# Altium schematic symbol library Hw_Lib.SchLib: 55 symbols (part 2 of 2)
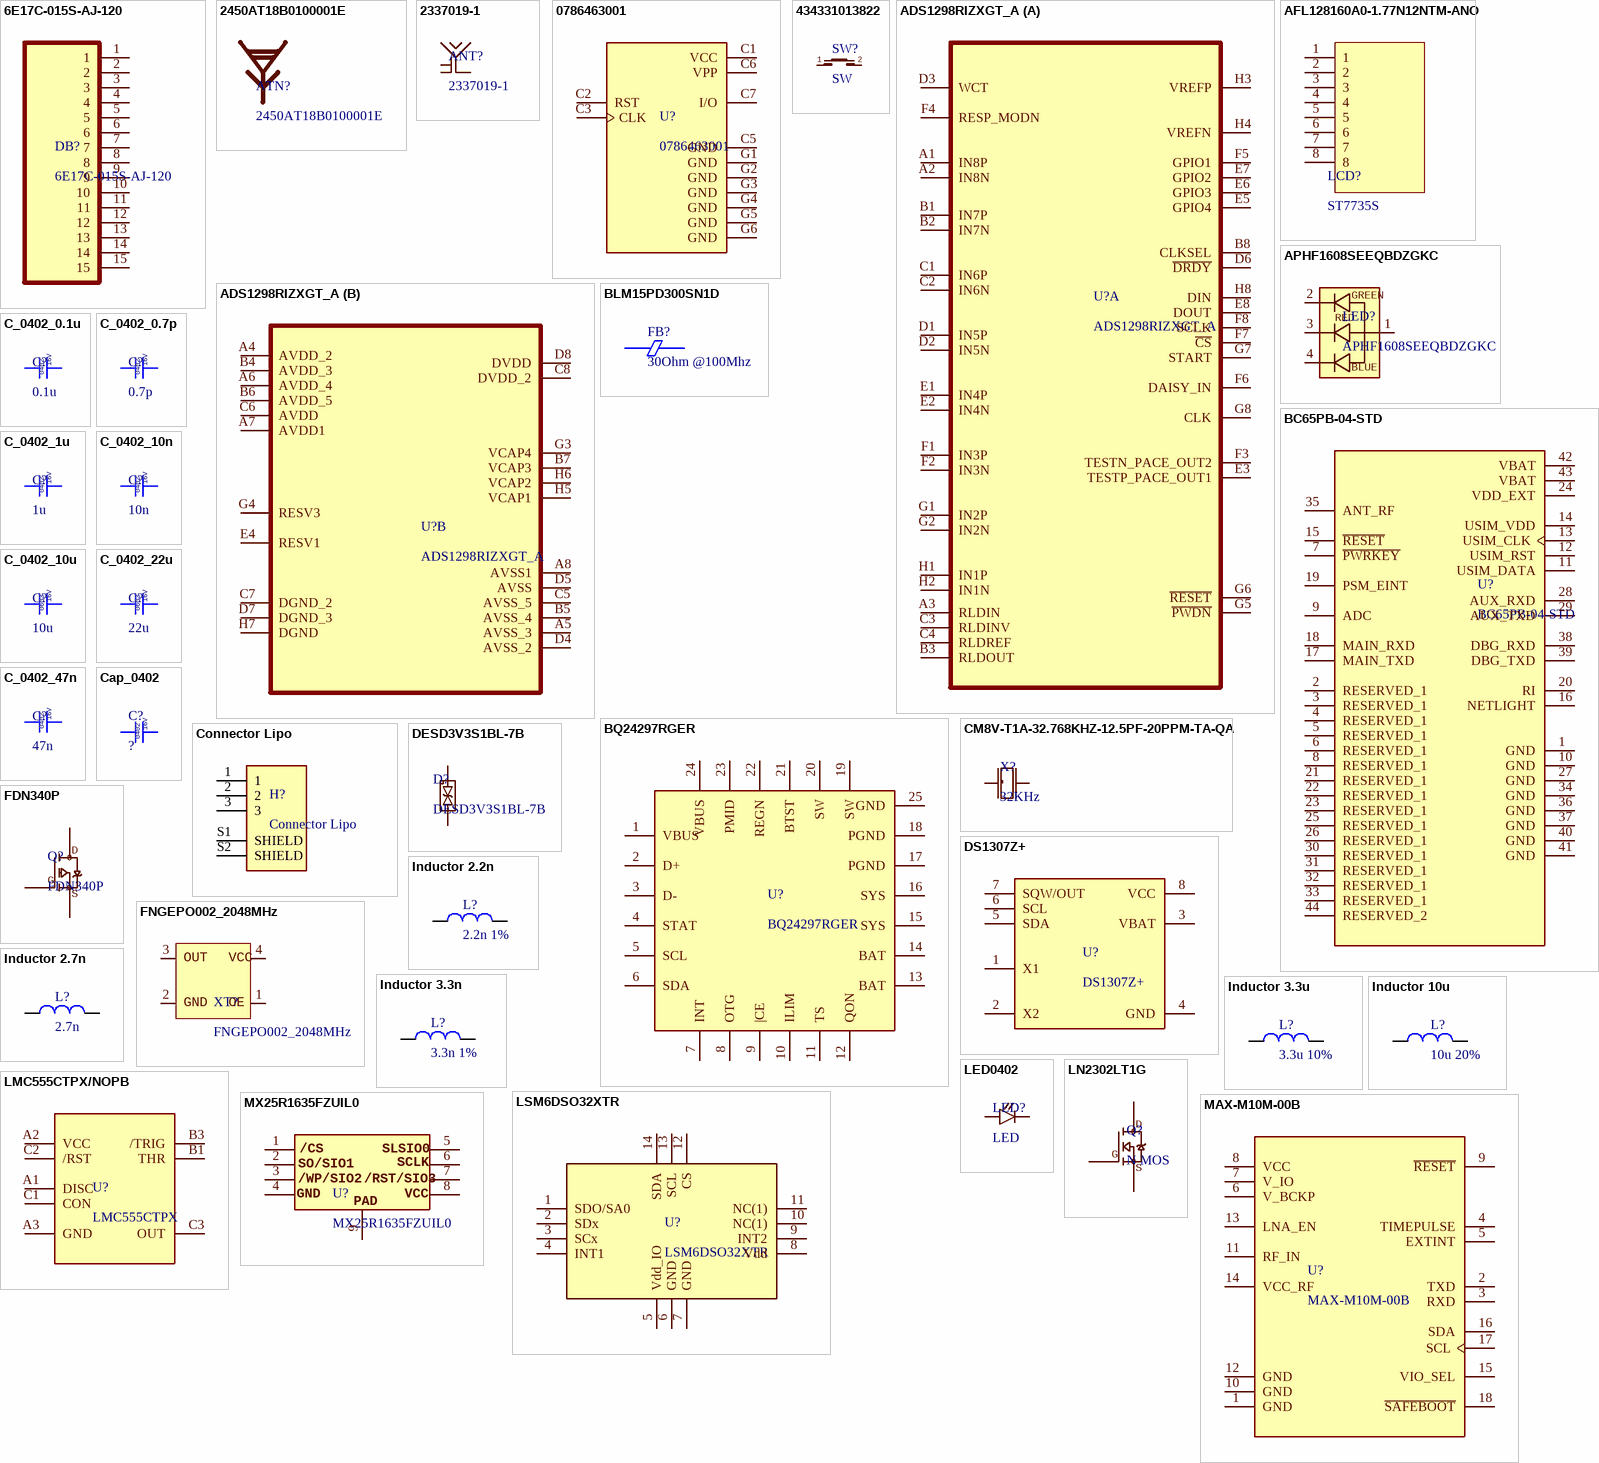
[diagram p2: symbols 6E17C-015S-AJ-120 to MX25R1635FZUIL0]

## Inductor 3.3u
designator L?, comment 3.3u 10%
General Purpose Inductor, 2.7uH, 10%, 1 Element, Ferrite-Core, SMD, 0402; Manufacturer: Abracon; Manufacturer Part Number: AIML-0402-2R7K-T; Case/Size Code: 0402; DC Resistance (DCR): 2R; Inductor Application: RF INDUCTOR; Channels: 1; Quality Factor-Min (at L-nom): 20; Max Current Rating: 10mA; Self Resonant Frequency: 22MHz; Shape/Size Description: RECTANGULAR PACKAGE; Shielding: Shielded; Test Frequency: 10MHz; Supplier: Digikey; Supplier Part Number: 535-11586-1-ND; RoHS: Yes; Category: Fixed Inductors; Stock: 9960; Pricing: 1=0.1, 10=0.06, 25=0.054, 50=0.05, 100=0.0464, 250=0.04192, 500=0.03886, 1000=0.03601, 2500=0.03255 (USD); Pins: 2; Core Material: Ferrite; Terminal Finish: Nickel; Min Operating Temperature: -55°C; Max Operating Temperature: 125°C; Tolerance: 10%; JESD-609 Code: e3; Inductance-Nom (L): 2.7uH; Inductor Type: GENERAL PURPOSE INDUCTOR; Manufacturer Series: AIML-0402; Surface Mount: Yes; Terminal Placement: Dual Ended; Termination: Wraparound; Reach SVHC Compliant: Yes; RoHS Compliant: Yes; ComponentLink1URL: https://datasheet.ciiva.com:443/pdfs/VipMasterIC/IC/ABRC/ABRC-S-A0008586383/ABRC-S-A0008586383-1.pdf?src-supplier=IHS+Markit; ComponentLink1Description: https://datasheet.ciiva.com:443/pdfs/VipMasterIC/IC/ABRC/ABRC-S-A0008586383/ABRC-S-A0008586383-1.pdf?src-supplier=IHS+Markit; ComponentLink2URL: https://datasheet.ciiva.com/1053/aiml-0402-1053196.pdf?src-supplier=Digikey; ComponentLink2Description: https://datasheet.ciiva.com/1053/aiml-0402-1053196.pdf?src-supplier=Digikey; ComponentLink3URL: https://datasheet.ciiva.com/1053/aiml-0402-1053197.pdf?src-supplier=Digikey; ComponentLink3Description: https://datasheet.ciiva.com/1053/aiml-0402-1053197.pdf?src-supplier=Digikey; ComponentLink4URL: https://datasheet.ciiva.com/1053/aiml-0402-1053198.pdf?src-supplier=Digikey; ComponentLink4Description: https://datasheet.ciiva.com/1053/aiml-0402-1053198.pdf?src-supplier=Digikey
footprint 0402(1005)
pins: 1, 2

## Inductor 10u
designator L?, comment 10u 20%
General Purpose Inductor, 10uH, 20%, 1 Element, Ferrite-Core, SMD, 0603; Manufacturer: TDK; Manufacturer Part Number: MLZ1608N100LTD25; Supplier 1: Digikey; Supplier Part Number 1: 445-17067-1-ND; Supplier: Digikey; Supplier Part Number: 445-17067-1-ND; RoHS: Yes; Category: Fixed Inductors; Stock: 21104; Pricing: 1=0.18, 10=0.149, 25=0.1364, 50=0.1206, 100=0.1054, 250=0.10044, 500=0.0944, 1000=0.07231 (USD); Inductor Type: GENERAL PURPOSE INDUCTOR; Reach SVHC Compliant: Yes; RoHS Compliant: Yes; ComponentLink1URL: https://datasheet.ciiva.com:443/pdfs/VipMasterIC/IC/TDKC/TDKC-S-A0007713921/TDKC-S-A0007713921-1.pdf?src-supplier=IHS+Markit; ComponentLink1Description: https://datasheet.ciiva.com:443/pdfs/VipMasterIC/IC/TDKC/TDKC-S-A0007713921/TDKC-S-A0007713921-1.pdf?src-supplier=IHS+Markit; ComponentLink2URL: http://www.mouser.com/ds/2/400/nductor_commercial_decoupling_mlz1608_en-837720.pdf?src-supplier=Mouser; ComponentLink2Description: http://www.mouser.com/ds/2/400/nductor_commercial_decoupling_mlz1608_en-837720.pdf?src-supplier=Mouser; ComponentLink3URL: https://product.tdk.com/info/en/catalog/datasheets/inductor_automotive_decoupling_mlz1608_en.pdf?src-supplier=Digikey; ComponentLink3Description: https://product.tdk.com/info/en/catalog/datasheets/inductor_automotive_decoupling_mlz1608_en.pdf?src-supplier=Digikey; ComponentLink4URL: https://product.tdk.com/info/en/catalog/datasheets/inductor_automotive_decoupling_mlz1608_en.pdf?ref_disty=digikey&src-supplier=Digikey; ComponentLink4Description: https://product.tdk.com/info/en/catalog/datasheets/inductor_automotive_decoupling_mlz1608_en.pdf?ref_disty=digikey&src-supplier=Digikey; ComponentLink5URL: https://datasheet.octopart.com/MLZ1608N100LTD25-TDK-datasheet-66132923.pdf?src-supplier=Future+Electronics; ComponentLink5Description: https://datasheet.octopart.com/MLZ1608N100LTD25-TDK-datasheet-66132923.pdf?src-supplier=Future+Electronics; Value: 10uH
footprint MLZ1608N100LTD25 (10 µH Shielded Multilayer Inductor 300 mA 600mOhm 0603 (1608 Metric))
pins: 1, 2

## LED0402
designator LED?, comment LED
Single Color LED, Hyper Red, Water Clear, 0.8mm; Manufacturer: Kingbright; Manufacturer Part Number: APHHS1005SURCK; Shape: Rectangular; Forward Current: 30mA; Luminous Intensity-Nom: 140mcd; Channels: 1; Viewing Angle: 120°; Forward Voltage: 2.5V; Reverse Voltage-Max: 5V; Overall Height: 0.5mm; Supplier: Digikey; Supplier Part Number: 754-1104-1-ND; RoHS: Yes; Category: LEDs; Stock: 73220; Pricing: 1=0.47, 10=0.31, 100=0.2068, 500=0.14302, 1000=0.11918 (USD); Mounting Technology: Surface Mount; Pins: 2; Color: Red; Color@wavelength: Red; Min Operating Temperature: -40°C; Max Operating Temperature: 85°C; Lens Style: WATER CLEAR; Optoelectronic Device Type: SINGLE COLOR LED; Packaging: Tape and Reel; Size: 0.8mm; Terminal Pitch: 1.1mm; Reach SVHC Compliant: Yes; RoHS Compliant: Yes; ComponentLink1URL: https://datasheet.ciiva.com:443/pdfs/VipMasterIC/IC/KBEC/KBEC-S-A0008947180/KBEC-S-A0008958151-1.pdf?src-supplier=IHS+Markit; ComponentLink1Description: https://datasheet.ciiva.com:443/pdfs/VipMasterIC/IC/KBEC/KBEC-S-A0008947180/KBEC-S-A0008958151-1.pdf?src-supplier=IHS+Markit; ComponentLink2URL: https://datasheet.ciiva.com/4689/aphhs1005surck-32322-4689068.pdf?src-supplier=Mouser; ComponentLink2Description: https://datasheet.ciiva.com/4689/aphhs1005surck-32322-4689068.pdf?src-supplier=Mouser; ComponentLink3URL: https://datasheet.ciiva.com/2114/aphhs1005surck-2114140.pdf?src-supplier=Digikey; ComponentLink3Description: https://datasheet.ciiva.com/2114/aphhs1005surck-2114140.pdf?src-supplier=Digikey; ComponentLink4URL: https://datasheet.ciiva.com/14603/70062833-14603899.pdf?src-supplier=Allied+Electronics; ComponentLink4Description: https://datasheet.ciiva.com/14603/70062833-14603899.pdf?src-supplier=Allied+Electronics; ComponentLink5URL: https://datasheet.ciiva.com/2114/aphhs1005surck-2114141.pdf?src-supplier=Digikey; ComponentLink5Description: https://datasheet.ciiva.com/2114/aphhs1005surck-2114141.pdf?src-supplier=Digikey; ComponentLink6URL: https://datasheet.ciiva.com/2114/aphhs1005surck-2114142.pdf?src-supplier=Digikey; ComponentLink6Description: https://datasheet.ciiva.com/2114/aphhs1005surck-2114142.pdf?src-supplier=Digikey
footprint LED0402
pins: 1 C, 2 A

## LMC555CTPX/NOPB
designator U?, comment LMC555CTPX
1 Func, 3MHz, CMOS, PBGA8; Manufacturer: TI National Semiconductor; Manufacturer Part Number: LMC555CTPX/NOPB; Package Body Material: Plastic; Throw Configuration: PULSE; RECTANGULAR; Channels: 1; Output Frequency-Max: 3GHz; Power Supplies: 1.5/12V; Max Supply Voltage: 12V; Min Supply Voltage: 1.5V; Nominal Supply Voltage: 5V; Time @ Peak Reflow Temperature-Max (s): 40s; Qualification Status: Not Qualified; Supplier 1: Digikey; Supplier Part Number 1: 296-46430-1-ND; Supplier: Digikey; Supplier Part Number: 296-46430-1-ND; RoHS: Yes; Category: Timers and Oscillators; Stock: 27881; Pricing: 1=1.35, 10=1.204, 25=1.1424, 100=0.9385, 250=0.87728, 500=0.77528, 1000=0.61206 (USD); Case/Package: FBGA; Pins: 8; Package Shape: Rectangular; Terminal Finish: Copper; Min Operating Temperature: -40°C; Max Operating Temperature: 85°C; JESD-609 Code: e1; Moisture Sensitivity Level: 1; Package Style: GRID ARRAY, FINE PITCHMeter; Peak Reflow Temperature (Cel): 260°C; Surface Mount: Yes; Technology: CMOS; Terminal Form: Ball; Terminal Position: BOTTOM; Length: 1.412mm; Width: 1.387mm; Terminal Pitch: 0.5mm; Reach SVHC Compliant: Yes; RoHS Compliant: Yes; Temperature Grade: INDUSTRIAL; ComponentLink1URL: https://datasheet.ciiva.com:443/pdfs/VipMasterIC/IC/NATL/NATLS11844/NATLS11844-1.pdf?src-supplier=IHS+Markit; ComponentLink1Description: https://datasheet.ciiva.com:443/pdfs/VipMasterIC/IC/NATL/NATLS11844/NATLS11844-1.pdf?src-supplier=IHS+Markit; ComponentLink2URL: https://datasheet.ciiva.com/6666/lmc555-6666976.pdf?src-supplier=Digikey; ComponentLink2Description: https://datasheet.ciiva.com/6666/lmc555-6666976.pdf?src-supplier=Digikey; ComponentLink3URL: https://datasheet.ciiva.com/15152/getdatasheetpartid-628891-15152597.pdf?src-supplier=Verical; ComponentLink3Description: https://datasheet.ciiva.com/15152/getdatasheetpartid-628891-15152597.pdf?src-supplier=Verical; ComponentLink4URL: https://datasheet.ciiva.com/14274/lmc555-14274486.pdf?src-supplier=Avnet; ComponentLink4Description: https://datasheet.ciiva.com/14274/lmc555-14274486.pdf?src-supplier=Avnet; ComponentLink5URL: https://datasheet.ciiva.com/14274/lmc555-14274422.pdf?src-supplier=Avnet; ComponentLink5Description: https://datasheet.ciiva.com/14274/lmc555-14274422.pdf?src-supplier=Avnet
footprint LMC555CTPX/NOPB (555 Type, Timer/Oscillator (Single) IC 3MHz 8-uSMD (1.41x1.44))
pins: A1 DISC, A2 VCC, A3 GND, B1 THR, B3 /TRIG, C1 CON, C2 /RST, C3 OUT

## LN2302LT1G
designator Q?, comment N MOS
https://www.thegioiic.com/ln2302lt1g-mosfet-kenh-n-20v-2-3a-sot-23-3
footprint FDN340P (P-Channel 20 V 2A (Ta) 500mW (Ta) Surface Mount SOT-23-3)
pins: 1 G, 2 S, 3 D

## LSM6DSO32XTR
designator U?
Analog Circuit; Manufacturer: STMicroelectronics; Supplier 1: Digikey; Supplier Part Number 1: 497-LSM6DSO32XTRCT-ND; Supplier: Digikey; Supplier Part Number: 497-LSM6DSO32XTRCT-ND; Manufacturer Part Number: LSM6DSO32XTR; RoHS: Yes; Category: Linear ICs; Stock: 7272; Pricing: 1=6.51, 5=5.488, 10=5.1, 25=4.628, 50=4.3008, 100=3.9969, 500=3.37188, 1000=3.13396 (USD)
footprint LSM6DSO32XTR (Accelerometer, Gyroscope, Temperature Sensor I2C, SPI Output)
pins: 1 SDO/SA0 (oc), 2 SDx (oc), 3 SCx (oc), 4 INT1 (oc), 5 Vdd_IO (oc), 6 GND (oc), 7 GND (oc), 8 Vdd (oc), 9 INT2 (oc), 10 NC(1) (oc), 11 NC(1) (oc), 12 CS (oc), 13 SCL (oc), 14 SDA (oc)

## MAX-M10M-00B
designator U?
Gnss Lcc Rx Mod, Rom, Crystal; Manufacturer: u-blox; Supplier 1: Digikey; Supplier Part Number 1: 672-MAX-M10M-00BCT-ND; Supplier: Digikey; Supplier Part Number: 672-MAX-M10M-00BCT-ND; Manufacturer Part Number: MAX-M10M-00B; RoHS: No; Category: RF Receivers, Transceivers; Stock: 11449; Pricing: 1=21, 10=13.52, 50=11.06, 100=9.4164 (USD)
footprint MAX-M10M-00B (MAX-M10 RF Receiver BeiDou, Galileo, GLONASS, GNSS, GPS -164dBm Not Included)
pins: 1 GND (oc), 2 TXD (oc), 3 RXD (oc), 4 TIMEPULSE (oc), 5 EXTINT (oc), 6 V_BCKP (oc), 7 V_IO (oc), 8 VCC (oc), 9 ~{RESET} (oc), 10 GND (oc), 11 RF_IN (oc), 12 GND (oc), 13 LNA_EN (oc), 14 VCC_RF (oc), 15 VIO_SEL (oc), 16 SDA (oc), 17 SCL (oc), 18 ~{SAFEBOOT} (oc)

## MX25R1635FZUIL0
designator U?
Flash, 4MX4, PDSO8; Manufacturer: Macronix; Package Body Material: Plastic; Channels: 1; Alternate Memory Width: 2; Clock Frequency: 80MHz; Density: 16777216b; Memory Width: 4; Memory Size: 4194304; Number of Words Code: 4M; Operating Mode: SYNCHRONOUS; Parallel/Serial: SERIAL; Programming Voltage: 3V; Max Supply Voltage: 3.6V; Min Supply Voltage: 1.65V; Nominal Supply Voltage: 1.8V; Supplier 1: Digikey; Supplier Part Number 1: 1092-1204-1-ND; Supplier: Digikey; Supplier Part Number: 1092-1204-1-ND; Manufacturer Part Number: MX25R1635FZUIL0; RoHS: Yes; Category: Memory; Stock: 57667; Pricing: 1=0.97, 10=0.858, 25=0.8184, 50=0.7898, 100=0.7621, 250=0.72684, 500=0.70126, 1000=0.67654, 5000=0.62231, 12000=0.59458 (USD); Case/Package: HVSON; Pins: 8; Package Shape: Rectangular; Min Operating Temperature: -40°C; Max Operating Temperature: 85°C; Memory Format: FLASH; JESD-30 Code: R-PDSO-N8; Organization: 4MX4; Package Style: SMALL OUTLINE, HEAT SINK/SLUG, VERY THIN PROFILEMeter; Surface Mount: Yes; Technology: CMOS; Terminal Form: No Lead; Terminal Position: DUAL; Length: 3mm; Width: 2mm; Terminal Pitch: 0.5mm; Height - Seated (Max): 0.6mm; RoHS Compliant: Yes; Reach SVHC Compliant: Yes; Temperature Grade: INDUSTRIAL; ComponentLink1URL: https://datasheet.ciiva.com:443/pdfs/VipMasterIC/IC/MXMA/MXMA-S-A0007136734/MXMA-S-A0007136734-1.pdf?src-supplier=IHS+Markit; ComponentLink1Description: https://datasheet.ciiva.com:443/pdfs/VipMasterIC/IC/MXMA/MXMA-S-A0007136734/MXMA-S-A0007136734-1.pdf?src-supplier=IHS+Markit; ComponentLink2URL: http://ckassoc.com/oldsite/pdf/Macronix_Product_Line_Card_July_2017_General%20_070617.pdf?src-supplier=Digikey; ComponentLink2Description: http://ckassoc.com/oldsite/pdf/Macronix_Product_Line_Card_July_2017_General%20_070617.pdf?src-supplier=Digikey; ComponentLink3URL: https://datasheet.octopart.com/MX25R1635FZUIL0-Macronix-datasheet-74389714.pdf?src-supplier=SHENGYU+ELECTRONICS; ComponentLink3Description: https://datasheet.octopart.com/MX25R1635FZUIL0-Macronix-datasheet-74389714.pdf?src-supplier=SHENGYU+ELECTRONICS
footprint MX25R1635FZUIL0 (FLASH - NOR Memory IC 16Mbit SPI - Quad I/O 33 MHz 8-USON (2x3))
pins: 1 /CS, 2 SO/SIO1, 3, 4, 5, 6, 7, 8, 9
text: SLSIO0; SCLK; /WP/SIO2; /RST/SIO3; GND; VCC; PAD

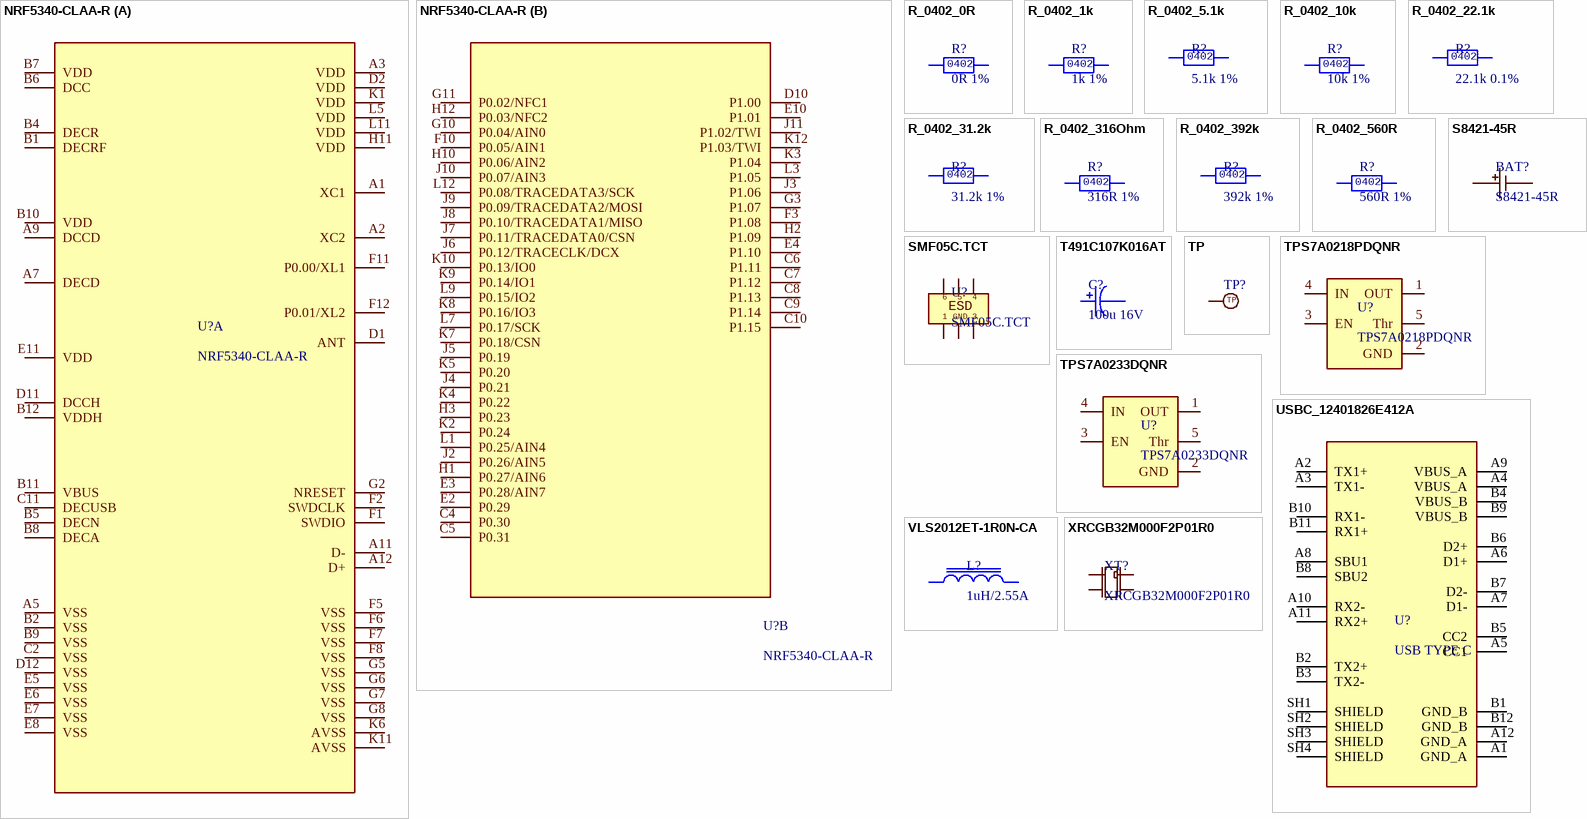
[diagram p1: symbols NRF5340-CLAA-R to XRCGB32M000F2P01R0]

## NRF5340-CLAA-R
designator U?
IC RF TXRX+MCU 802.15.4 95WLCSP; Manufacturer: Nordic Semiconductor; Supplier 1: Digikey; Supplier Part Number 1: 4823-NRF5340-CLAA-RCT-ND; Supplier: Digikey; Supplier Part Number: 4823-NRF5340-CLAA-RCT-ND; Manufacturer Part Number: NRF5340-CLAA-R; RoHS: No; Category: RF Receivers, Transceivers; Stock: 15499; Pricing: 1=7.28, 100=6.2, 500=5.39004, 1000=4.93002 (USD)
footprint NRF5340-CLAA-R
part A pins: A1 XC1, A2 XC2, A3 VDD, A5 VSS, A7 DECD, A9 DCCD, A11 D-, A12 D+, B1 DECRF, B2 VSS, B4 DECR, B5 DECN, B6 DCC, B7 VDD, B8 DECA, B9 VSS, B10 VDD, B11 VBUS, B12 VDDH, C2 VSS, C11 DECUSB, D1 ANT, D2 VDD, D11 DCCH, D12 VSS, E5 VSS, E6 VSS, E7 VSS, E8 VSS, E11 VDD, F1 SWDIO, F2 SWDCLK, F5 VSS, F6 VSS, F7 VSS, F8 VSS, F11 P0.00/XL1, F12 P0.01/XL2, G2 NRESET, G5 VSS, G6 VSS, G7 VSS, G8 VSS, H11 VDD, K1 VDD, K6 AVSS, K11 AVSS, L5 VDD, L11 VDD
part B pins: C4 P0.30, C5 P0.31, C6 P1.11, C7 P1.12, C8 P1.13, C9 P1.14, C10 P1.15, D10 P1.00, E2 P0.29, E3 P0.28/AIN7, E4 P1.10, E10 P1.01, F3 P1.08, F10 P0.05/AIN1, G3 P1.07, G10 P0.04/AIN0, G11 P0.02/NFC1, H1 P0.27/AIN6, H2 P1.09, H3 P0.23, H10 P0.06/AIN2, H12 P0.03/NFC2, J2 P0.26/AIN5, J3 P1.06, J4 P0.21, J5 P0.19, J6 P0.12/TRACECLK/DCX, J7 P0.11/TRACEDATA0/CSN, J8 P0.10/TRACEDATA1/MISO, J9 P0.09/TRACEDATA2/MOSI, J10 P0.07/AIN3, J11 P1.02/TWI, K2 P0.24, K3 P1.04, K4 P0.22, K5 P0.20, K7 P0.18/CSN, K8 P0.16/IO3, K9 P0.14/IO1, K10 P0.13/IO0, K12 P1.03/TWI, L1 P0.25/AIN4, L3 P1.05, L7 P0.17/SCK, L9 P0.15/IO2, L12 P0.08/TRACEDATA3/SCK

## R_0402_0R
designator R?, comment 0R 1%
Metal Glaze/thick Film, 0.0625W, 0ohm, Surface Mount, 0402; Manufacturer: Yageo; Manufacturer Part Number: RC0402JR-070RL; Power: 62.5mW; Rated Temperature: 70°C; Package Height: 0.35mm; Package Length: 1mm; Package Width: 0.5mm; Supplier 1: Digikey; Supplier Part Number 1: 311-0.0JRTR-ND; Supplier: Digikey; Supplier Part Number: 311-0.0JRCT-ND; RoHS: Yes; Category: Chip SMD Resistors; Stock: 14877447; Pricing: 1=0.1, 10=0.011, 25=0.0084, 50=0.0064, 100=0.0045, 250=0.00364, 500=0.0029, 1000=0.00214, 5000=0.00154, 10000=0.00133, 30000=0.00117, 50000=0.00107, 100000=0.00105 (USD); Mounting Technology: Surface Mount; Pins: 2; Package Shape: Rectangular; Case/Package: 0402; Terminal Finish: Nickel; Min Operating Temperature: -55°C; Max Operating Temperature: 155°C; JESD-609 Code: e3; Resistor Type: FIXED RESISTOR; Packaging: Tape and Reel; Value: 0R; Technology: METAL GLAZE/THICK FILM; Termination: Wraparound; Construction: Chip; Package Style: SMTMeter; Reach SVHC Compliant: Yes; RoHS Compliant: Yes; ComponentLink1URL: https://datasheet.ciiva.com:443/pdfs/VipMasterIC/IC/YAGO/YAGO-S-A0008145938/YAGO-S-A0008145938-1.pdf?src-supplier=IHS+Markit; ComponentLink1Description: https://datasheet.ciiva.com:443/pdfs/VipMasterIC/IC/YAGO/YAGO-S-A0008145938/YAGO-S-A0008145938-1.pdf?src-supplier=IHS+Markit; ComponentLink2URL: https://datasheet.ciiva.com/2452/pyu-rc0402-51-rohs-l-6-2452608.pdf?src-supplier=Digikey; ComponentLink2Description: https://datasheet.ciiva.com/2452/pyu-rc0402-51-rohs-l-6-2452608.pdf?src-supplier=Digikey; ComponentLink3URL: https://datasheet.ciiva.com/11808/0900766b80c66297-11808195.pdf?src-supplier=Rs; ComponentLink3Description: https://datasheet.ciiva.com/11808/0900766b80c66297-11808195.pdf?src-supplier=Rs; ComponentLink4URL: https://datasheet.ciiva.com/7983/1018594-7983535.pdf?src-supplier=Element14; ComponentLink4Description: https://datasheet.ciiva.com/7983/1018594-7983535.pdf?src-supplier=Element14; ComponentLink5URL: https://datasheet.ciiva.com/22747/1018594-22747515.pdf?src-supplier=Element14; ComponentLink5Description: https://datasheet.ciiva.com/22747/1018594-22747515.pdf?src-supplier=Element14; ComponentLink6URL: https://datasheet.ciiva.com/2452/pyu-r-int-thick-7-2452609.pdf?src-supplier=Digikey; ComponentLink6Description: https://datasheet.ciiva.com/2452/pyu-r-int-thick-7-2452609.pdf?src-supplier=Digikey; ComponentLink7URL: https://datasheet.ciiva.com/2452/pyu-r-int-thick-7-2452610.pdf?src-supplier=Digikey; ComponentLink7Description: https://datasheet.ciiva.com/2452/pyu-r-int-thick-7-2452610.pdf?src-supplier=Digikey; ComponentLink8URL: https://datasheet.ciiva.com/8896/pyu-rc0402-51-rohs-l-6-8896201.pdf?src-supplier=Avnet; ComponentLink8Description: https://datasheet.ciiva.com/8896/pyu-rc0402-51-rohs-l-6-8896201.pdf?src-supplier=Avnet
footprint RES0402 (Chip Resistor, 2-Leads, Body 1.00x0.50mm, IPC Medium Density)
pins: 1, 2

## R_0402_1k
designator R?, comment 1k 1%
Fixed Resistor, Metal Glaze/thick Film, 0.1W, 1000ohm, 75V, 1% +/-Tol, 100ppm/Cel, Surface Mount, 0402; Manufacturer: KOA Speer; Manufacturer Part Number: RK73H1ETTP1001F; Additional Feature: PRECISION; Power: 100mW; Rated Temperature: 70°C; Value: 1kR; Temperature Coefficient: 100ppm/°C; Working Voltage: 50V; Package Height: 0.35mm; Package Length: 1mm; Package Width: 0.5mm; Reference Standard: AEC-Q200; Supplier 1: Digikey; Supplier Part Number 1: 311-1.00KLRDKR-ND; Supplier: Digikey; Supplier Part Number: 2019-RK73H1ETTP1001FCT-ND; RoHS: Yes; Category: Chip SMD Resistors; Stock: 1041060; Pricing: 1=0.1, 10=0.021, 50=0.0134, 100=0.0112, 500=0.00764, 1000=0.00658, 5000=0.00478 (USD); Mounting Technology: Surface Mount; Pins: 2; Case/Package: 0402; Terminal Finish: Nickel; Min Operating Temperature: -55°C; Max Operating Temperature: 155°C; Tolerance: 1%; JESD-609 Code: e3; Resistor Type: FIXED RESISTOR; Construction: Rectangular; Package Style: SMTMeter; Packaging: Tape and Reel; Technology: METAL GLAZE/THICK FILM; Termination: Wraparound; Reach SVHC Compliant: Yes; RoHS Compliant: Yes; ComponentLink1URL: https://datasheet.ciiva.com:443/pdfs/VipMasterIC/IC/KOAS/KOAS-S-A0009586304/KOAS-S-A0009586304-1.pdf?src-supplier=IHS+Markit; ComponentLink1Description: https://datasheet.ciiva.com:443/pdfs/VipMasterIC/IC/KOAS/KOAS-S-A0009586304/KOAS-S-A0009586304-1.pdf?src-supplier=IHS+Markit; ComponentLink2URL: https://datasheet.ciiva.com/5554/rk73h-5554172.pdf?src-supplier=Mouser; ComponentLink2Description: https://datasheet.ciiva.com/5554/rk73h-5554172.pdf?src-supplier=Mouser
footprint RES0402 (Chip Resistor, 2-Leads, Body 1.00x0.50mm, IPC Medium Density)
pins: 1, 2

## R_0402_5.1k
designator R?, comment 5.1k 1%
Fixed Resistor, Metal Glaze/thick Film, 0.0625W, 5100ohm, 50V, 1% +/-Tol, 100ppm/Cel, Surface Mount, 0402; Manufacturer: Yageo; Manufacturer Part Number: RC0402FR-075K1L; Additional Feature: LASER TRIMMABLE; Power: 62.5mW; Rated Temperature: 70°C; Value: 5.1kR; Temperature Coefficient: 100ppm/°C; Package Height: 0.35mm; Package Length: 1mm; Package Width: 0.5mm; Supplier: Digikey; Supplier Part Number: 311-5.10KLRCT-ND; RoHS: Yes; Category: Chip SMD Resistors; Stock: 302088; Pricing: 1=0.1, 10=0.015, 50=0.0088, 100=0.0073, 500=0.00488, 1000=0.00417, 5000=0.00297 (USD); Mounting Technology: Surface Mount; Pins: 2; Package Shape: Rectangular; Case/Package: 0402; Terminal Finish: Nickel; Min Operating Temperature: -55°C; Max Operating Temperature: 155°C; Tolerance: 1%; JESD-609 Code: e3; Resistor Type: FIXED RESISTOR; Packaging: Tape and Reel; Technology: METAL GLAZE/THICK FILM; Termination: Wraparound; Working Voltage: 50V; Construction: Chip; Package Style: SMTMeter; Reach SVHC Compliant: Yes; RoHS Compliant: Yes; ComponentLink1URL: https://datasheet.ciiva.com:443/pdfs/VipMasterIC/IC/YAGO/YAGO-S-A0008145938/YAGO-S-A0008145938-1.pdf?src-supplier=IHS+Markit; ComponentLink1Description: https://datasheet.ciiva.com:443/pdfs/VipMasterIC/IC/YAGO/YAGO-S-A0008145938/YAGO-S-A0008145938-1.pdf?src-supplier=IHS+Markit; ComponentLink2URL: https://datasheet.ciiva.com/7983/1018594-7983519.pdf?src-supplier=Element14; ComponentLink2Description: https://datasheet.ciiva.com/7983/1018594-7983519.pdf?src-supplier=Element14; ComponentLink3URL: https://datasheet.ciiva.com/46394/1018594-46394936.pdf?src-supplier=Element14; ComponentLink3Description: https://datasheet.ciiva.com/46394/1018594-46394936.pdf?src-supplier=Element14; ComponentLink4URL: https://datasheet.ciiva.com/2453/pyu-r-int-thick-7-2453401.pdf?src-supplier=Digikey; ComponentLink4Description: https://datasheet.ciiva.com/2453/pyu-r-int-thick-7-2453401.pdf?src-supplier=Digikey; ComponentLink5URL: https://datasheet.ciiva.com/2453/pyu-r-int-thick-7-2453402.pdf?src-supplier=Digikey; ComponentLink5Description: https://datasheet.ciiva.com/2453/pyu-r-int-thick-7-2453402.pdf?src-supplier=Digikey; ComponentLink6URL: https://datasheet.ciiva.com/2453/pyu-r-int-thick-7-2453400.pdf?src-supplier=Digikey; ComponentLink6Description: https://datasheet.ciiva.com/2453/pyu-r-int-thick-7-2453400.pdf?src-supplier=Digikey; ComponentLink7URL: https://datasheet.ciiva.com/12558/pyu-rc0402-51-rohs-l-6-r-8721-12558460.pdf?src-supplier=Mouser; ComponentLink7Description: https://datasheet.ciiva.com/12558/pyu-rc0402-51-rohs-l-6-r-8721-12558460.pdf?src-supplier=Mouser; ComponentLink8URL: https://datasheet.ciiva.com/16744/pyu-rc0402-51-rohs-l-6-r-16744283.pdf?src-supplier=Future+Electronics; ComponentLink8Description: https://datasheet.ciiva.com/16744/pyu-rc0402-51-rohs-l-6-r-16744283.pdf?src-supplier=Future+Electronics; ComponentLink9URL: https://datasheet.ciiva.com/15189/getdatasheetpartid-323636-15189493.pdf?src-supplier=Verical; ComponentLink9Description: https://datasheet.ciiva.com/15189/getdatasheetpartid-323636-15189493.pdf?src-supplier=Verical
footprint RES0402 (Chip Resistor, 2-Leads, Body 1.00x0.50mm, IPC Medium Density)
pins: 1, 2

## R_0402_10k
designator R?, comment 10k 1%
Fixed Resistor, Metal Glaze/thick Film, 0.06W, 10000ohm, 50V, 1% +/-Tol, 100ppm/Cel, Surface Mount, 0402; Manufacturer: Samsung; Manufacturer Part Number: RC1005F103CS; Power: 60mW; Value: 10kR; Temperature Coefficient: 100ppm/°C; Package Height: 0.35mm; Package Length: 1mm; Package Width: 0.5mm; Supplier: Digikey; Supplier Part Number: 1276-3431-1-ND; RoHS: Yes; Category: Chip SMD Resistors; Stock: 14343795; Pricing: 1=0.1, 10=0.024, 50=0.0156, 100=0.0132, 500=0.00922, 1000=0.00803, 5000=0.00598, 10000=0.00533, 20000=0.00481, 30000=0.00458 (USD); Mounting Technology: Surface Mount; Pins: 2; Package Shape: Rectangular; Case/Package: 0402; Terminal Finish: Nickel; Min Operating Temperature: -55°C; Max Operating Temperature: 125°C; Tolerance: 1%; JESD-609 Code: e3; Resistor Type: FIXED RESISTOR; Construction: Chip; Package Style: SMTMeter; Packaging: Tape and Reel; Technology: METAL GLAZE/THICK FILM; Working Voltage: 50V; Reach SVHC Compliant: Yes; RoHS Compliant: Yes; ComponentLink1URL: https://datasheet.ciiva.com:443/pdfs/VipMasterIC/IC/SEMS/SEMS-S-A0001326806/SEMS-S-A0001326806-1.pdf?src-supplier=IHS+Markit; ComponentLink1Description: https://datasheet.ciiva.com:443/pdfs/VipMasterIC/IC/SEMS/SEMS-S-A0001326806/SEMS-S-A0001326806-1.pdf?src-supplier=IHS+Markit; ComponentLink2URL: https://datasheet.ciiva.com/15196/getdatasheetpartid-504789-15196214.pdf?src-supplier=Verical; ComponentLink2Description: https://datasheet.ciiva.com/15196/getdatasheetpartid-504789-15196214.pdf?src-supplier=Verical; ComponentLink3URL: https://datasheet.ciiva.com/16481/rcseries-16481007.pdf?src-supplier=Future+Electronics; ComponentLink3Description: https://datasheet.ciiva.com/16481/rcseries-16481007.pdf?src-supplier=Future+Electronics
footprint R0402 (0 Ohms Jumper Chip Resistor 0402 (1005 Metric) Moisture Resistant Thick Film)
pins: 1, 2

## R_0402_22.1k
designator R?, comment 22.1k 0.1%
Fixed Resistor, Thin Film, 0.063W, 22100ohm, 50V, 0.1% +/-Tol, 25ppm/Cel, Surface Mount, 0402; Manufacturer: Vishay Dale; Manufacturer Part Number: TNPW040222K1BEED; Manufacturer Series: TNPW; Power: 63mW; Rated Temperature: 70°C; Value: 22.1kR; Temperature Coefficient: 25ppm/°C; Supplier: Digikey; Supplier Part Number: TNP22.1KDACT-ND; RoHS: Yes; Category: Chip SMD Resistors; Stock: 60436; Pricing: 1=0.38, 10=0.272, 50=0.2098, 100=0.1863, 500=0.1394, 1000=0.12239, 5000=0.10368 (USD); Mounting Technology: Surface Mount; Pins: 2; Package Shape: Rectangular; Case/Package: 0402; Terminal Finish: Tin; Min Operating Temperature: -55°C; Max Operating Temperature: 125°C; Tolerance: 0.1%; JESD-609 Code: e3; Resistor Type: FIXED RESISTOR; Packaging: Tape and Reel; Technology: THIN FILM; Termination: Wraparound; Working Voltage: 50V; Reach SVHC Compliant: Yes; RoHS Compliant: Yes; ComponentLink1URL: https://datasheet.ciiva.com:443/pdfs/VipMasterIC/IC/DALE/DALES05753/DALES05753-1.pdf?src-supplier=IHS+Markit; ComponentLink1Description: https://datasheet.ciiva.com:443/pdfs/VipMasterIC/IC/DALE/DALES05753/DALES05753-1.pdf?src-supplier=IHS+Markit; ComponentLink2URL: http://www.mouser.com/ds/2/427/tnpw_e3-64594.pdf?src-supplier=Mouser; ComponentLink2Description: http://www.mouser.com/ds/2/427/tnpw_e3-64594.pdf?src-supplier=Mouser; ComponentLink3URL: http://www.farnell.com/datasheets/2618479.pdf?src-supplier=Farnell; ComponentLink3Description: http://www.farnell.com/datasheets/2618479.pdf?src-supplier=Farnell; ComponentLink4URL: http://www.vishay.com/docs/28758/tnpw_e3.pdf?src-supplier=Digikey; ComponentLink4Description: http://www.vishay.com/docs/28758/tnpw_e3.pdf?src-supplier=Digikey; ComponentLink5URL: http://www.vishay.com/docs/49252/_dbr_smd_resistor_product_overview_vmn_sg2189_1705.pdf?src-supplier=Digikey; ComponentLink5Description: http://www.vishay.com/docs/49252/_dbr_smd_resistor_product_overview_vmn_sg2189_1705.pdf?src-supplier=Digikey; ComponentLink6URL: http://www.vishay.com/docs/28758/tnpw_e3.pdf?src-supplier=Avnet; ComponentLink6Description: http://www.vishay.com/docs/28758/tnpw_e3.pdf?src-supplier=Avnet; ComponentLink7URL: http://www.farnell.com/datasheets/2618479.pdf?src-supplier=Newark; ComponentLink7Description: http://www.farnell.com/datasheets/2618479.pdf?src-supplier=Newark; ComponentLink8URL: https://datasheet.octopart.com/TNPW040222K1BEED-Vishay-datasheet-112277797.pdf?src-supplier=Newark; ComponentLink8Description: https://datasheet.octopart.com/TNPW040222K1BEED-Vishay-datasheet-112277797.pdf?src-supplier=Newark
footprint R0402 (0 Ohms Jumper Chip Resistor 0402 (1005 Metric) Moisture Resistant Thick Film)
pins: 1, 2

## R_0402_31.2k
designator R?, comment 31.2k 1%
Fixed Resistor, Thin Film, 0.063W, 31200ohm, 50V, 1% +/-Tol, 25ppm/Cel, Surface Mount, 0402; Manufacturer: KOA Speer; Manufacturer Part Number: RN73H1ETTP3122F25; Supplier: Digikey; Supplier Part Number: 2019-RN73H1ETTP3122F25CT-ND; RoHS: Yes; Category: Resistors; Stock: 29267; Pricing: 1=0.25, 10=0.187, 50=0.1462, 100=0.1304, 500=0.09846, 1000=0.08675, 5000=0.0639 (USD); ComponentLink1URL: https://datasheet.ciiva.com:443/pdfs/VipMasterIC/IC/KOAS/KOAS-S-A0009586296/KOAS-S-A0009586296-1.pdf?src-supplier=IHS+Markit; ComponentLink1Description: https://datasheet.ciiva.com:443/pdfs/VipMasterIC/IC/KOAS/KOAS-S-A0009586296/KOAS-S-A0009586296-1.pdf?src-supplier=IHS+Markit; ComponentLink2URL: https://datasheet.ciiva.com/12737/rn73h-12737573.pdf?src-supplier=Mouser; ComponentLink2Description: https://datasheet.ciiva.com/12737/rn73h-12737573.pdf?src-supplier=Mouser
footprint RES0402 (Chip Resistor, 2-Leads, Body 1.00x0.50mm, IPC Medium Density)
pins: 1, 2
text: 0402

## R_0402_316Ohm
designator R?, comment 316R 1%
Fixed Resistor, Metal Glaze/thick Film, 0.1W, 316ohm, 75V, 1% +/-Tol, 100ppm/Cel, Surface Mount, 0402; Manufacturer: KOA Speer; Manufacturer Part Number: RK73H1ETTP3160F; Additional Feature: PRECISION; Power: 100mW; Rated Temperature: 70°C; Temperature Coefficient: 100ppm/°C; Working Voltage: 50V; Package Height: 0.35mm; Package Length: 1mm; Package Width: 0.5mm; Reference Standard: AEC-Q200; Supplier: Digikey; Supplier Part Number: 2019-RK73H1ETTP3160FCT-ND; RoHS: Yes; Category: Chip SMD Resistors; Stock: 38581; Pricing: 1=0.1, 10=0.021, 50=0.0134, 100=0.0112, 500=0.00764, 1000=0.00658, 5000=0.00478 (USD); Mounting Technology: Surface Mount; Pins: 2; Case/Package: 0402; Terminal Finish: Nickel; Min Operating Temperature: -55°C; Max Operating Temperature: 155°C; Tolerance: 1%; JESD-609 Code: e3; Resistor Type: FIXED RESISTOR; Construction: Rectangular; Package Style: SMTMeter; Packaging: Tape and Reel; Value: 316R; Technology: METAL GLAZE/THICK FILM; Termination: Wraparound; Reach SVHC Compliant: Yes; RoHS Compliant: Yes; ComponentLink1URL: https://datasheet.ciiva.com:443/pdfs/VipMasterIC/IC/KOAS/KOAS-S-A0009586304/KOAS-S-A0009586304-1.pdf?src-supplier=IHS+Markit; ComponentLink1Description: https://datasheet.ciiva.com:443/pdfs/VipMasterIC/IC/KOAS/KOAS-S-A0009586304/KOAS-S-A0009586304-1.pdf?src-supplier=IHS+Markit; ComponentLink2URL: https://datasheet.ciiva.com/5553/rk73h-5553335.pdf?src-supplier=Mouser; ComponentLink2Description: https://datasheet.ciiva.com/5553/rk73h-5553335.pdf?src-supplier=Mouser
footprint R0402 (0 Ohms Jumper Chip Resistor 0402 (1005 Metric) Moisture Resistant Thick Film)
pins: 1, 2

## R_0402_392k
designator R?, comment 392k 1%
Fixed Resistor, Metal Glaze/thick Film, 0.1W, 392000ohm, 75V, 1% +/-Tol, 100ppm/Cel, Surface Mount, 0402; Manufacturer: KOA Speer; Manufacturer Part Number: RK73H1ETTP3923F; Additional Feature: PRECISION; Power: 100mW; Rated Temperature: 70°C; Value: 392kR; Temperature Coefficient: 100ppm/°C; Working Voltage: 50V; Package Height: 0.35mm; Package Length: 1mm; Package Width: 0.5mm; Reference Standard: AEC-Q200; Supplier: Digikey; Supplier Part Number: 2019-RK73H1ETTP3923FCT-ND; RoHS: Yes; Category: Chip SMD Resistors; Stock: 5184; Pricing: 1=0.1, 10=0.023, 50=0.0138, 100=0.0115, 500=0.00768, 1000=0.00657, 5000=0.00476 (USD); Mounting Technology: Surface Mount; Pins: 2; Case/Package: 0402; Terminal Finish: Nickel; Min Operating Temperature: -55°C; Max Operating Temperature: 155°C; Tolerance: 1%; JESD-609 Code: e3; Resistor Type: FIXED RESISTOR; Construction: Rectangular; Package Style: SMTMeter; Packaging: Tape and Reel; Technology: METAL GLAZE/THICK FILM; Termination: Wraparound; Reach SVHC Compliant: Yes; RoHS Compliant: Yes; ComponentLink1URL: https://datasheet.ciiva.com:443/pdfs/VipMasterIC/IC/KOAS/KOAS-S-A0009586304/KOAS-S-A0009586304-1.pdf?src-supplier=IHS+Markit; ComponentLink1Description: https://datasheet.ciiva.com:443/pdfs/VipMasterIC/IC/KOAS/KOAS-S-A0009586304/KOAS-S-A0009586304-1.pdf?src-supplier=IHS+Markit; ComponentLink2URL: https://datasheet.ciiva.com/3882/39733851s9852373n5146-3882825.pdf?src-supplier=Arrow+Electronics; ComponentLink2Description: https://datasheet.ciiva.com/3882/39733851s9852373n5146-3882825.pdf?src-supplier=Arrow+Electronics; ComponentLink3URL: https://datasheet.ciiva.com/5553/rk73h-5553836.pdf?src-supplier=Mouser; ComponentLink3Description: https://datasheet.ciiva.com/5553/rk73h-5553836.pdf?src-supplier=Mouser
footprint R0402 (0 Ohms Jumper Chip Resistor 0402 (1005 Metric) Moisture Resistant Thick Film)
pins: 1, 2

## R_0402_560R
designator R?, comment 560R 1%
Fixed Resistor, Metal Glaze/thick Film, 0.1W, 560ohm, 75V, 1% +/-Tol, 100ppm/Cel, Surface Mount, 0402; Manufacturer: KOA Speer; Manufacturer Part Number: RK73H1ETTP5600F; Additional Feature: PRECISION; Power: 100mW; Rated Temperature: 70°C; Temperature Coefficient: 100ppm/°C; Working Voltage: 50V; Package Height: 0.35mm; Package Length: 1mm; Package Width: 0.5mm; Reference Standard: AEC-Q200; Supplier: Digikey; Supplier Part Number: 2019-RK73H1ETTP5600FCT-ND; RoHS: Yes; Category: Chip SMD Resistors; Stock: 65205; Pricing: 1=0.1, 10=0.021, 50=0.0134, 100=0.0112, 500=0.00764, 1000=0.00658, 5000=0.00478 (USD); Mounting Technology: Surface Mount; Pins: 2; Case/Package: 0402; Terminal Finish: Nickel; Min Operating Temperature: -55°C; Max Operating Temperature: 155°C; Tolerance: 1%; JESD-609 Code: e3; Resistor Type: FIXED RESISTOR; Construction: Rectangular; Package Style: SMTMeter; Packaging: Tape and Reel; Value: 560R; Technology: METAL GLAZE/THICK FILM; Termination: Wraparound; Reach SVHC Compliant: Yes; RoHS Compliant: Yes; ComponentLink1URL: https://datasheet.ciiva.com:443/pdfs/VipMasterIC/IC/KOAS/KOAS-S-A0009586304/KOAS-S-A0009586304-1.pdf?src-supplier=IHS+Markit; ComponentLink1Description: https://datasheet.ciiva.com:443/pdfs/VipMasterIC/IC/KOAS/KOAS-S-A0009586304/KOAS-S-A0009586304-1.pdf?src-supplier=IHS+Markit; ComponentLink2URL: https://datasheet.ciiva.com/5557/rk73h-5557917.pdf?src-supplier=Mouser; ComponentLink2Description: https://datasheet.ciiva.com/5557/rk73h-5557917.pdf?src-supplier=Mouser
footprint R0402 (0 Ohms Jumper Chip Resistor 0402 (1005 Metric) Moisture Resistant Thick Film)
pins: 1, 2

## S8421-45R
designator BAT?
Batteries/Accessories; Manufacturer: Harwin; Supplier: Digikey; Supplier Part Number: 952-1737-1-ND; Manufacturer Part Number: S8421-45R; RoHS: Yes; Category: Connectors; Stock: 2630; Pricing: 1=1.67, 10=1.404, 50=1.234, 100=1.1627, 250=1.06944 (USD); ComponentLink1URL: https://datasheet.ciiva.com:443/pdfs/VipMasterIC/IC/HRWN/HRWN-S-A0000709403/HRWN-S-A0000709403-1.pdf?src-supplier=IHS+Markit; ComponentLink1Description: https://datasheet.ciiva.com:443/pdfs/VipMasterIC/IC/HRWN/HRWN-S-A0000709403/HRWN-S-A0000709403-1.pdf?src-supplier=IHS+Markit; ComponentLink2URL: https://datasheet.ciiva.com/7613/s8421r-7613429.pdf?src-supplier=Digikey; ComponentLink2Description: https://datasheet.ciiva.com/7613/s8421r-7613429.pdf?src-supplier=Digikey; ComponentLink3URL: https://datasheet.ciiva.com/5224/s8421r-64815-5224678.pdf?src-supplier=Mouser; ComponentLink3Description: https://datasheet.ciiva.com/5224/s8421r-64815-5224678.pdf?src-supplier=Mouser; Supplier 1: Digikey; Supplier Part Number 1: 952-1737-1-ND
footprint S8421-45R
pins: N NEG, P POS

## SMF05C.TCT
designator U?
Trans Voltage Suppressor Diode, 100W, 5V V(RWM), Unidirectional, 5 Element, Silicon, MO-203AB; Manufacturer: Semtech; Package Body Material: Plastic; Min Breakdown Voltage: 6V; Clamping Voltage-Max: 12.5V; Number of Elements: 5; Qualification Status: Not Qualified; Supplier 1: Digikey; Supplier Part Number 1: SMF05CCT-ND; Supplier: Digikey; Supplier Part Number: SMF05CCT-ND; Manufacturer Part Number: SMF05C.TCT; RoHS: Yes; Category: TVS Diodes; Stock: 54740; Pricing: 1=0.8, 10=0.689, 100=0.4772, 500=0.39874, 1000=0.33936 (USD); Pins: 6; Diode Element Material: SILICON; Package Shape: Rectangular; Terminal Finish: Tin; Min Operating Temperature: -55°C; Max Operating Temperature: 125°C; JESD-609 Code: e3; Polarity: Unidirectional; Diode Type: TRANS VOLTAGE SUPPRESSOR; JESD-30 Code: R-PDSO-G6; Moisture Sensitivity Level: 1; Non-rep Peak Rev Power Dis-Max: 100W; Package Style: SMALL OUTLINEMeter; Peak Reflow Temperature (Cel): 260°C; Rep Pk Reverse Voltage-Max: 5V; Surface Mount: Yes; Technology: AVALANCHE; Terminal Form: Gull Wing; Terminal Position: DUAL; Reach SVHC Compliant: Yes; RoHS Compliant: Yes; ComponentLink1URL: https://datasheet.ciiva.com:443/pdfs/VipMasterIC/IC/SEMT/SEMT-S-A0000305255/SEMT-S-A0000305255-1.pdf?src-supplier=IHS+Markit; ComponentLink1Description: https://datasheet.ciiva.com:443/pdfs/VipMasterIC/IC/SEMT/SEMT-S-A0000305255/SEMT-S-A0000305255-1.pdf?src-supplier=IHS+Markit; ComponentLink2URL: https://datasheet.ciiva.com/338/smf05c-338385.pdf?src-supplier=Digikey; ComponentLink2Description: https://datasheet.ciiva.com/338/smf05c-338385.pdf?src-supplier=Digikey; ComponentLink3URL: https://datasheet.ciiva.com/18065/getdatasheetpartid-89007-18065142.pdf?src-supplier=Verical; ComponentLink3Description: https://datasheet.ciiva.com/18065/getdatasheetpartid-89007-18065142.pdf?src-supplier=Verical; ComponentLink4URL: https://datasheet.ciiva.com/338/smf05c-338386.pdf?src-supplier=Digikey; ComponentLink4Description: https://datasheet.ciiva.com/338/smf05c-338386.pdf?src-supplier=Digikey; ComponentLink5URL: https://datasheet.ciiva.com/338/smf05c-338387.pdf?src-supplier=Digikey; ComponentLink5Description: https://datasheet.ciiva.com/338/smf05c-338387.pdf?src-supplier=Digikey; ComponentLink6URL: https://datasheet.ciiva.com/16387/smf05c-16387308.pdf?src-supplier=Future+Electronics; ComponentLink6Description: https://datasheet.ciiva.com/16387/smf05c-16387308.pdf?src-supplier=Future+Electronics
footprint SMF05C.TCT
pins: 1, 2, 3, 4, 5, 6
text: ESD; GND

## T491C107K016AT
designator C?, comment 100u 16V
Tantalum Capacitor, Polarized, Tantalum (dry/solid), 16V, 10% +Tol, 10% -Tol, 100uF, Surface Mount, 2413; Manufacturer: KEMET; Manufacturer Part Number: T491C107K016AT; ESR (Equivalent Series Resistance): 1R; Leakage Current: 16uA; Ripple Current: 132.8mA; Tan Delta: 0.1; Supplier 1: Digikey; Supplier Part Number 1: 399-5214-1-ND; Supplier: Digikey; Supplier Part Number: 399-5214-1-ND; RoHS: Yes; Category: Tantalum Capacitors; Stock: 21248; Pricing: 1=1.86, 10=1.393, 50=1.271, 100=1.0412 (USD); Mounting Technology: Surface Mount; Pins: 2; Terminal Finish: Tin; Dielectric Material: Tantalum; Case/Package: 2413; Package Shape: Rectangular; Min Operating Temperature: -55°C; Max Operating Temperature: 125°C; JESD-609 Code: e3; Package Style: SMTMeter; Packaging: Tape and Reel; Polarity: Polarized; Value: 100uF; Capacitor Type: Tantalum; Tolerance  (fill in as +-): 10%; Tolerance (fill in as +-): 10%; Rated DC Voltage (URdc): 16V; Termination: J BEND; Length: 6mm; Width: 3.2mm; Height: 2.5mm; Reach SVHC Compliant: Yes; RoHS Compliant: Yes; ComponentLink1URL: https://datasheet.ciiva.com:443/pdfs/VipMasterIC/IC/KEME/KEME-S-A0009553711/KEME-S-A0009553711-1.pdf?src-supplier=IHS+Markit; ComponentLink1Description: https://datasheet.ciiva.com:443/pdfs/VipMasterIC/IC/KEME/KEME-S-A0009553711/KEME-S-A0009553711-1.pdf?src-supplier=IHS+Markit; ComponentLink2URL: https://datasheet.ciiva.com/12887/kem-t2005-t491-12887095.pdf?src-supplier=Mouser; ComponentLink2Description: https://datasheet.ciiva.com/12887/kem-t2005-t491-12887095.pdf?src-supplier=Mouser; ComponentLink3URL: https://datasheet.ciiva.com/46417/1854511-46417622.pdf?src-supplier=Element14; ComponentLink3Description: https://datasheet.ciiva.com/46417/1854511-46417622.pdf?src-supplier=Element14; ComponentLink4URL: https://datasheet.ciiva.com/46417/1854511-46417623.pdf?src-supplier=Element14; ComponentLink4Description: https://datasheet.ciiva.com/46417/1854511-46417623.pdf?src-supplier=Element14; ComponentLink5URL: https://datasheet.ciiva.com/46417/1854511-46417624.pdf?src-supplier=Element14; ComponentLink5Description: https://datasheet.ciiva.com/46417/1854511-46417624.pdf?src-supplier=Element14; ComponentLink6URL: https://datasheet.ciiva.com/7614/kem-t2005-t491-7614509.pdf?src-supplier=Digikey; ComponentLink6Description: https://datasheet.ciiva.com/7614/kem-t2005-t491-7614509.pdf?src-supplier=Digikey; ComponentLink7URL: https://datasheet.ciiva.com/7614/kem-t2005-t491-7614510.pdf?src-supplier=Digikey; ComponentLink7Description: https://datasheet.ciiva.com/7614/kem-t2005-t491-7614510.pdf?src-supplier=Digikey; ComponentLink8URL: https://datasheet.ciiva.com/7614/kem-t2005-t491-7614511.pdf?src-supplier=Digikey; ComponentLink8Description: https://datasheet.ciiva.com/7614/kem-t2005-t491-7614511.pdf?src-supplier=Digikey
footprint T491C107K016AT (100 µF Molded Tantalum Capacitors 16 V 2312 (6032 Metric) 1Ohm)
pins: A 3, C 4

## TP
designator TP?  (value not drawn)
Test Point
footprint TP
pins: 1

## TPS7A0218PDQNR
designator U?
Fixed Positive LDO Regulator, 1.8V, 0.45V Dropout, PDSO4; Manufacturer: Texas Instruments; Supplier 1: Digikey; Supplier Part Number 1: 296-TPS7A0218PDQNRCT-ND; Supplier: Digikey; Supplier Part Number: 296-TPS7A0218PDQNRCT-ND; Manufacturer Part Number: TPS7A0218PDQNR; RoHS: Yes; Category: Voltage Regulators - Linear; Stock: 7328; Pricing: 1=0.9, 10=0.79, 25=0.7424, 100=0.6058, 250=0.56268, 500=0.47886, 1000=0.38309 (USD); ComponentLink1URL: http://www.ti.com/general/docs/suppproductinfo.tsp?distId=10&amp;gotoUrl=http%3A%2F%2Fwww.ti.com%2Flit%2Fgpn%2Ftps7a02&src-supplier=Digikey; ComponentLink1Description: http://www.ti.com/general/docs/suppproductinfo.tsp?distId=10&amp;gotoUrl=http%3A%2F%2Fwww.ti.com%2Flit%2Fgpn%2Ftps7a02&src-supplier=Digikey
footprint TPS7A0218PDQNR (Linear Voltage Regulator IC Positive Fixed 1 Output 200mA 4-X2SON (1x1))
pins: 1 OUT, 2 GND, 3 EN, 4 IN, 5 Thr

## TPS7A0233DQNR
designator U?
200-mA, nanopower-IQ (25 nA), low-dropout (LDO) voltage regulator with enable 4-X2SON -40 to 125; Manufacturer: Texas Instruments; Supplier 1: Mouser; Supplier: Digikey; Supplier Part Number: 296-TPS7A0233DQNRCT-ND; Manufacturer Part Number: TPS7A0233DQNR; RoHS: No; Category: Integrated Circuits (ICs); Stock: 5386; Pricing: 1=0.8, 10=0.707, 25=0.6636, 100=0.5417, 250=0.5032, 500=0.42824, 1000=0.34259 (USD); Supplier Part Number 1: 595-TPS7A0233DQNR
footprint TPS7A0218PDQNR (Linear Voltage Regulator IC Positive Fixed 1 Output 200mA 4-X2SON (1x1))
pins: 1 OUT, 2 GND, 3 EN, 4 IN, 5 Thr

## USBC_12401826E412A
designator U?, comment USB TYPE C
USB3.2 GEN2, Type C, Top mount, CH 1.58mm, Dual Row SMT / Tap/Rl RoHS Compliant: Yes; Manufacturer: Amphenol Communications Solutions; Manufacturer Part Number: 12401826E412A; Supplier 1: Digikey; Supplier Part Number 1: 12401826E412ACT-ND; Supplier: Digikey; Supplier Part Number: 12401826E412ACT-ND; RoHS: No; Category: USB Connectors; Stock: 9613; Pricing: 1=2.38, 10=1.813, 25=1.632, 50=1.509, 100=1.3971, 250=1.26484, 500=1.17548 (USD); ComponentLink1URL: https://datasheet.octopart.com/12401826E412A-Amphenol-Communications-Solutions-datasheet-112029729.pdf?src-supplier=Master+Electronics; ComponentLink1Description: https://datasheet.octopart.com/12401826E412A-Amphenol-Communications-Solutions-datasheet-112029729.pdf?src-supplier=Master+Electronics
footprint 12401826E412A
pins: A1 GND_A (oc), A2 TX1+ (oc), A3 TX1- (oc), A4 VBUS_A (oc), A5 CC1 (oc), A6 D1+ (oc), A7 D1- (oc), A8 SBU1 (oc), A9 VBUS_A (oc), A10 RX2- (oc), A11 RX2+ (oc), A12 GND_A (oc), B1 GND_B (oc), B2 TX2+ (oc), B3 TX2- (oc), B4 VBUS_B (oc), B5 CC2 (oc), B6 D2+ (oc), B7 D2- (oc), B8 SBU2 (oc), B9 VBUS_B (oc), B10 RX1- (oc), B11 RX1+ (oc), B12 GND_B (oc), SH1 SHIELD, SH2 SHIELD, SH3 SHIELD, SH4 SHIELD

## VLS2012ET-1R0N-CA
designator L?, comment 1uH/2.55A
General Purpose Inductor; Manufacturer: TDK; Manufacturer Part Number: VLS2012ET-1R0N-CA; Supplier 1: Digikey; Supplier Part Number 1: 445-172980-1-ND; Supplier: Digikey; Supplier Part Number: 445-174120-1-ND; RoHS: Yes; Category: Fixed Inductors; Stock: 1949; Pricing: 1=0.44, 10=0.374, 25=0.3428, 50=0.3116, 100=0.2773, 250=0.26172, 500=0.22434, 1000=0.19941 (USD); Inductor Type: GENERAL PURPOSE INDUCTOR; Reach SVHC Compliant: Yes; RoHS Compliant: Yes; ComponentLink1URL: https://datasheet.ciiva.com:443/pdfs/VipMasterIC/IC/TDKC/TDKC-S-A0004907989/TDKC-S-A0004907989-1.pdf?src-supplier=IHS+Markit; ComponentLink1Description: https://datasheet.ciiva.com:443/pdfs/VipMasterIC/IC/TDKC/TDKC-S-A0004907989/TDKC-S-A0004907989-1.pdf?src-supplier=IHS+Markit; ComponentLink2URL: https://datasheet.ciiva.com/29691/inductor-automotive-power-vls-e-ca-en-29691173.pdf?src-supplier=Digikey; ComponentLink2Description: https://datasheet.ciiva.com/29691/inductor-automotive-power-vls-e-ca-en-29691173.pdf?src-supplier=Digikey
footprint VLS2012ET-1R0N-CA (1 µH Shielded Drum Core, Wirewound Inductor 1.65 A 86mOhm Max Nonstandard)
pins: 1, 2

## XRCGB32M000F2P01R0
designator XT?
Parallel - Fundamental Quartz Crystal, 32MHz Nom; Manufacturer: Murata; Supplier 1: Digikey; Supplier Part Number 1: 490-18340-1-ND; Supplier: Digikey; Supplier Part Number: 490-18340-1-ND; Manufacturer Part Number: XRCGB32M000F2P01R0; RoHS: Yes; Category: Crystals; Stock: 3681354; Pricing: 1=0.23, 10=0.189, 50=0.1696, 100=0.1508, 500=0.14326, 1000=0.13275 (USD); Crystal/Resonator Type: PARALLEL - FUNDAMENTAL; Reach SVHC Compliant: Yes; RoHS Compliant: Yes; ComponentLink1URL: https://datasheet.ciiva.com:443/pdfs/VipMasterIC/IC/MURE/MURE-S-A0006740795/MURE-S-A0006740847-1.pdf?src-supplier=IHS+Markit; ComponentLink1Description: https://datasheet.ciiva.com:443/pdfs/VipMasterIC/IC/MURE/MURE-S-A0006740795/MURE-S-A0006740847-1.pdf?src-supplier=IHS+Markit
footprint XRCGB32M000F2P01R0 (32 MHz ±20ppm Crystal 8pF 100 Ohms 4-SMD, No Lead)
pins: 1, 2, 3, 4